# Altium schematic symbol library HDC1080.SchLib: 1 symbol
Pins are listed as number, name and electrical type; pins without a type are passive.

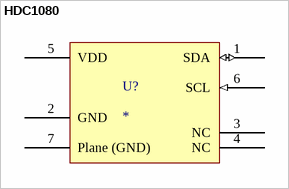
[diagram p0: symbol HDC1080]

## HDC1080
designator U?
pins: 1 SDA (io), 2 GND (power), 3 NC (hiz), 4 NC (hiz), 5 VDD (power), 6 SCL (in), 7 Plane (GND) (power)